# Altium schematic symbol library ADM409.Schlib: 1 symbol
Pins are listed as number, name and electrical type; pins without a type are passive.

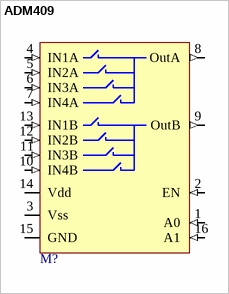
[diagram p0: symbol ADM409]

## ADM409
designator M?  (value not drawn)
Double 4-ch analog multiplexor
footprint TSSOP16_AD (Footprint not found)
pins: 1 A0 (in), 2 EN (in), 3 Vss (power), 4 IN1A (in), 5 IN2A (in), 6 IN3A (in), 7 IN4A (in), 8 OutA (out), 9 OutB (out), 10 IN4B (in), 11 IN3B (in), 12 IN2B (in), 13 IN1B (in), 14 Vdd (power), 15 GND (power), 16 A1 (in)